# Altium footprint library Flip-Flops.PcbLib: 1 footprints
Each footprint in its own frame and in the unit in brackets; x right, y up, seen from the top. Pads: shape width x height; smd on the part's side, far side on the other; paste and mask are expansions set on the pad; w line width, h text height; cw(c..) or ccw(c..) is an arc to the next point about the centre after c.
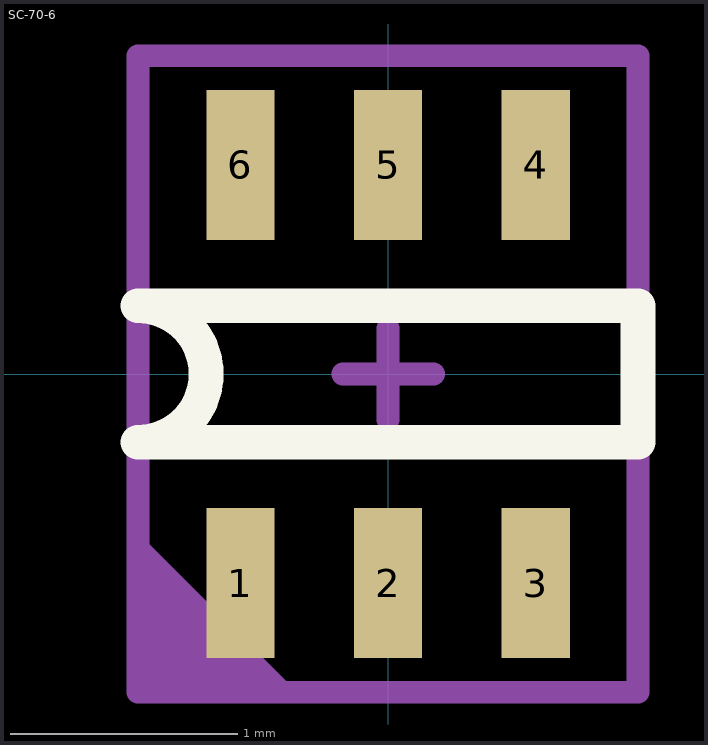
[diagram p0: the footprint, top view; thin cyan lines are the x and y axes]

## SC-70-6 [mm]
pads (6):
  rect 0.3x0.66 smd: 1(-0.65,-0.92) 2(0,-0.92) 3(0.65,-0.92) 4(0.65,0.92) 5(0,0.92) 6(-0.65,0.92)
Top Overlay:
  lines w0.153: -1.1,-0.3 ccw(c-1.1,0) -1.1,0.3 1.1,0.3 1.1,-0.3 -1.1,-0.3
Top Assembly:
  region: -1.1,-1.4 -1.1,-0.7 -0.4,-1.4
  lines w0.1: -1.1,-1.4 1.1,-1.4 1.1,1.4 -1.1,1.4 -1.1,-1.4
  text "'.Designator'" at -4.532,-0.333 h0.8
Mechanical 15:
  lines w0.1: -0.2,0 0.2,0 ; 0,-0.2 0,0.2 ; -1.1,-1.4 1.1,-1.4 1.1,1.4 -1.1,1.4 -1.1,-1.4
3D body "User Library-SC70-6.step": height 0.92, standoff -0.03, extent -1,-1.05 1,1.05